# EAGLE library part PCF85063TP (library NMR_NXP)
NXP PCF85063TP Small Size, Low Power RTC 32.768kHz Osc. needed 0.9V to 5.5V operating range 0.22uA at 3.3V 400kHz I2C Selectable interal osc. capacitors (see datasheet) Provides year, month, day, weekday, H, M, S
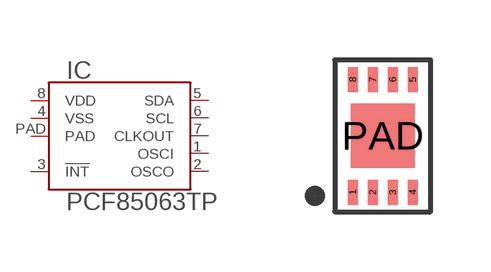
[diagram p0: symbol with the pads of HWSON8; footprint HWSON8]

Designator prefix IC

## PCF85063TP  [HWSON8]
1  OSCI  in
2  OSCO  out
3  !INT!  out
4  VSS  pwr
5  SDA
6  SCL
7  CLKOUT  out
8  VDD  pwr
PAD  PAD  nc

## Footprint HWSON8 (pad centres in mm)
smd 0.25 x 0.625: 1 -0.75,-1.413; 2 -0.25,-1.413; 3 0.25,-1.413; 4 0.75,-1.413; 5 0.75,1.413; 6 0.25,1.413; 7 -0.25,1.413; 8 -0.75,1.413
smd 1.6 x 1.6: PAD 0,0